# EAGLE library part CENTURION_CORE_V1 (library DECADE-libraries20151104)
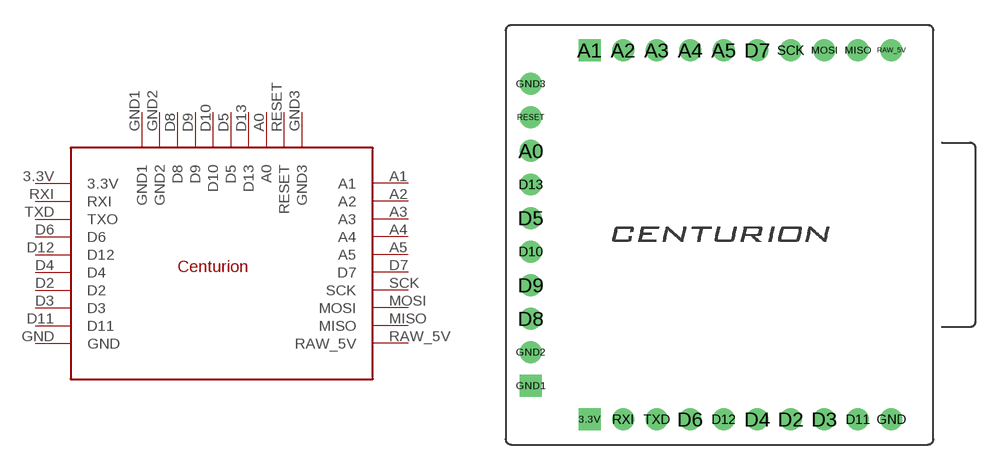
[diagram p119: symbol with the pads of CENTURION_CORE; footprint CENTURION_CORE]

Designator prefix -

## CENTURION_CORE_V1  [CENTURION_CORE]
3.3V  3.3V
A0  A0
A1  A1
A2  A2
A3  A3
A4  A4
A5  A5
D2  D2
D3  D3
D4  D4
D5  D5
D6  D6
D7  D7
D8  D8
D9  D9
D10  D10
D11  D11
D12  D12
D13  D13
GND  GND
GND1  GND1
GND2  GND2
GND3  GND3
MISO  MISO
MOSI  MOSI
RAW_5V  RAW_5V
RESET  RESET
RXI  RXI
SCK  SCK
TXD  TXO

## Footprint CENTURION_CORE (pad centres in mm)
drill 0.8 square: 3.3V 0,0; A1 0,22; GND1 -3.5,2
drill 0.8: A0 -3.5,16; A2 2,22; A3 4,22; A4 6,22; A5 8,22; D2 12,0; D3 14,0; D4 10,0; D5 -3.5,12; D6 6,0; D7 10,22; D8 -3.5,6; D9 -3.5,8; D10 -3.5,10; D11 16,0; D12 8,0; D13 -3.5,14; GND 18,0; GND2 -3.5,4; GND3 -3.5,20; MISO 16,22; MOSI 14,22; RAW_5V 18,22; RESET -3.5,18; RXI 2,0; SCK 12,22; TXD 4,0